# Altium footprint library con-other.PcbLib: 23 footprints (part 2 of 2)
Each footprint in its own frame and in the unit in brackets; x right, y up, seen from the top. Pads: shape width x height; smd on the part's side, far side on the other; paste and mask are expansions set on the pad; w line width, h text height; cw(c..) or ccw(c..) is an arc to the next point about the centre after c.
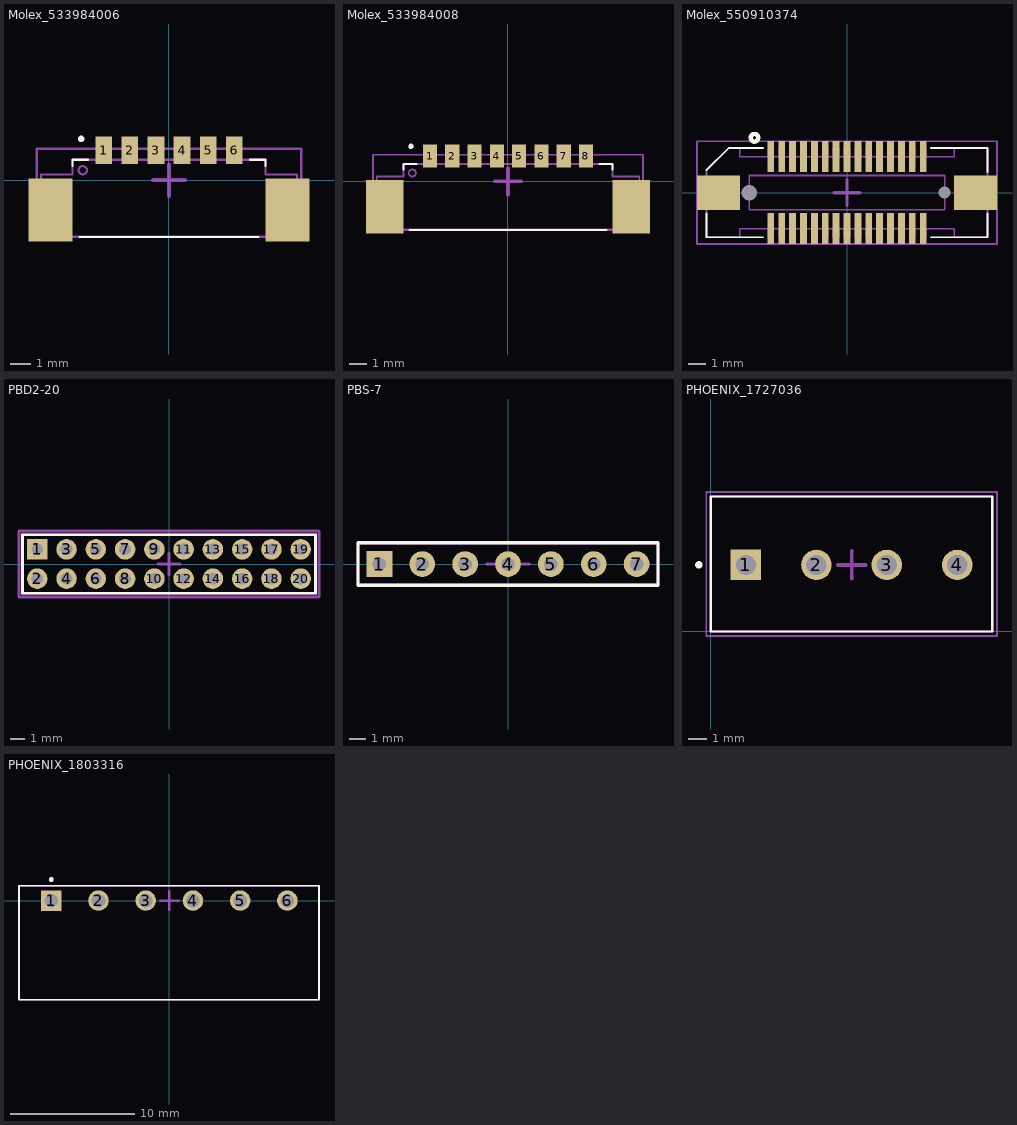
[diagram p1: the footprints below, top view; thin cyan lines are the x and y axes]

## Molex_533984006 [mm] "1.25mm Pitch PicoBlade™ Header, Surface Mount, Vertical, 6 Circuits"
height 4.7
pads (8):
  rect 0.8x1.3 smd mask+0.1: 1(-3.125,1.425) 2(-1.875,1.425) 3(-0.625,1.425) 4(0.625,1.425) 5(1.875,1.425) 6(3.125,1.425)
  rect 2.1x3 smd mask+0.1: ""(-5.675,-1.425) ""(5.675,-1.425)
Top Overlay:
  circle w0.2: c-4.2,1.975 r0.05
  lines w0.1: -4.625,0.675 -4.625,0.975 -3.875,0.975 ; -4.275,-2.725 4.275,-2.725 ; 3.875,0.975 4.625,0.975 4.625,0.675
Top Assembly (Mech3):
  circle w0.1: c-4.125,0.475 r0.2
  lines w0.1: -6.125,-2.725 6.125,-2.725 6.125,0.275 4.625,0.275 4.625,0.975 -4.625,0.975 -4.625,0.275 -6.125,0.275 -6.125,-2.725
Top Courtyard:
  lines w0.1: -6.325,-2.7 6.325,-2.7 6.325,1.5 -6.325,1.5 -6.325,-2.7
  lines w0.2: -0.75,0 0.75,0 ; 0,-0.75 0,0.75
3D body "533980671.stp": height 4.72, standoff -0.02, extent -6.325,-2.7 6.325,1.5

## Molex_533984008 [mm] "1.25mm Pitch PicoBlade™ Header, Surface Mount, Vertical, 8 Circuits"
height 4.7
pads (10):
  rect 0.8x1.3 smd mask+0.1: 1(-4.375,1.425) 2(-3.125,1.425) 3(-1.875,1.425) 4(-0.625,1.425) 5(0.625,1.425) 6(1.875,1.425) 7(3.125,1.425) 8(4.375,1.425)
  rect 2.1x3 smd mask+0.1: ""(-6.925,-1.425) ""(6.925,-1.425)
Top Overlay:
  circle w0.2: c-5.45,1.975 r0.05
  lines w0.1: -5.875,0.675 -5.875,0.975 -5.125,0.975 ; -5.525,-2.725 5.525,-2.725 ; 5.125,0.975 5.875,0.975 5.875,0.675
Top Assembly (Mech3):
  circle w0.1: c-5.375,0.475 r0.2
  lines w0.1: -7.375,-2.725 -7.375,0.275 -5.875,0.275 -5.875,0.975 5.875,0.975 5.875,0.275 7.375,0.275 7.375,-2.725 -7.375,-2.725
Top Courtyard:
  lines w0.1: -7.575,-2.7 7.575,-2.7 7.575,1.5 -7.575,1.5 -7.575,-2.7
  lines w0.2: -0.75,0 0.75,0 ; 0,-0.75 0,0.75
3D body "533980871.stp": height 4.72, standoff -0.02, extent -7.575,-2.7 7.575,1.5

## Molex_550910374 [mm] "SlimStack Board-to-Board Connector, 0.635mm Pitch, 0.635 Series, Receptacle, 6.00 to 10.00mm Mated Height, 6.40mm Mated Width, 30 Circuits"
height 5.2
pads (34):
  rect 0.4x1.8 smd: 1(-4.445,2.1) 2(-4.445,-2.1) 3(-3.81,2.1) 4(-3.81,-2.1) 5(-3.175,2.1) 6(-3.175,-2.1) 7(-2.54,2.1) 8(-2.54,-2.1) 9(-1.905,2.1) 10(-1.905,-2.1) 11(-1.27,2.1) 12(-1.27,-2.1) 13(-0.635,2.1) 14(-0.635,-2.1) 15(0,2.1) 16(0,-2.1) 17(0.635,2.1) 18(0.635,-2.1) 19(1.27,2.1) 20(1.27,-2.1) 21(1.905,2.1) 22(1.905,-2.1) 23(2.54,2.1) 24(2.54,-2.1) 25(3.175,2.1) 26(3.175,-2.1) 27(3.81,2.1) 28(3.81,-2.1) 29(4.445,2.1) 30(4.445,-2.1)
  round 0 hole 0.9: 4(-5.7,0)
  round 0 hole 0.7: 4(5.7,0)
  rect 2.5x2 smd: ""(-7.5,0) ""(7.5,0)
Top Overlay:
  circle w0.254: c-5.4,3.2 r0.224
  lines w0.1: -8.2,-1.2 -8.2,-2.6 ; -8.2,1.3 -6.9,2.6 -4.9,2.6 ; -4.9,-2.6 -8.2,-2.6 ; 4.9,-2.6 8.2,-2.6 ; 4.9,2.6 8.2,2.6 8.2,1.2 ; 8.2,-1.2 8.2,-2.6 ; -8.2,-2.6 -8.2,-2.6 ; 8.2,-2.6 8.2,-2.6
Top Assembly (Mech3):
  region: 4.645,-2.1 4.245,-2.1 4.245,-2.6 4.645,-2.6
  region: 4.01,-2.1 3.61,-2.1 3.61,-2.6 4.01,-2.6
  region: 3.375,-2.1 2.975,-2.1 2.975,-2.6 3.375,-2.6
  region: 2.74,-2.1 2.34,-2.1 2.34,-2.6 2.74,-2.6
  region: 2.105,-2.1 1.705,-2.1 1.705,-2.6 2.105,-2.6
  region: 1.47,-2.1 1.07,-2.1 1.07,-2.6 1.47,-2.6
  region: 0.835,-2.1 0.435,-2.1 0.435,-2.6 0.835,-2.6
  region: 0.2,-2.1 -0.2,-2.1 -0.2,-2.6 0.2,-2.6
  region: -0.435,-2.1 -0.835,-2.1 -0.835,-2.6 -0.435,-2.6
  region: -1.07,-2.1 -1.47,-2.1 -1.47,-2.6 -1.07,-2.6
  region: -1.705,-2.1 -2.105,-2.1 -2.105,-2.6 -1.705,-2.6
  region: -2.34,-2.1 -2.74,-2.1 -2.74,-2.6 -2.34,-2.6
  region: -2.975,-2.1 -3.375,-2.1 -3.375,-2.6 -2.975,-2.6
  region: -3.61,-2.1 -4.01,-2.1 -4.01,-2.6 -3.61,-2.6
  region: -4.245,-2.1 -4.645,-2.1 -4.645,-2.6 -4.245,-2.6
  rectangle: 4.245,2.1 4.645,2.6
  rectangle: 3.61,2.1 4.01,2.6
  rectangle: 2.975,2.1 3.375,2.6
  rectangle: 2.34,2.1 2.74,2.6
  rectangle: 1.705,2.1 2.105,2.6
  rectangle: 1.07,2.1 1.47,2.6
  rectangle: 0.435,2.1 0.835,2.6
  rectangle: -0.2,2.1 0.2,2.6
  rectangle: -0.835,2.1 -0.435,2.6
  rectangle: -1.47,2.1 -1.07,2.6
  rectangle: -2.105,2.1 -1.705,2.6
  rectangle: -2.74,2.1 -2.34,2.6
  rectangle: -3.375,2.1 -2.975,2.6
  rectangle: -4.01,2.1 -3.61,2.6
  rectangle: -4.645,2.1 -4.245,2.6
  lines w0.1: -6.25,-2.1 -6.25,-2.6 -8.2,-2.6 -8.2,1.3 -6.9,2.6 -6.25,2.6 -6.25,2.1 6.25,2.1 6.25,2.6 8.2,2.6 8.2,-2.6 6.25,-2.6 6.25,-2.1 -6.25,-2.1 ; -6.25,-2.1 -6.25,-2.1 ; 5.7,1 -5.7,1 -5.7,-1 5.7,-1 5.7,1 ; 5.7,1 5.7,1
Top Courtyard:
  lines w0.1: -8.75,-3 -8.75,3 8.75,3 8.75,-3 -8.75,-3
  lines w0.2: -0.75,0 0.75,0 ; 0,-0.75 0,0.75
3D body "Molex 550910374.stp": height 5.2, standoff -0.6, extent -8.2,-2.6 8.2,2.6

## PBD2-20 [mm] "DS1026-06"
height 4.3
pads (20):
  rect 1.4x1.4 hole 0.8: 1(-9,1)
  round 1.4 hole 0.8: 2(-9,-1) 3(-7,1) 4(-7,-1) 5(-5,1) 6(-5,-1) 7(-3,1) 8(-3,-1) 9(-1,1) 10(-1,-1) 11(1,1) 12(1,-1) 13(3,1) 14(3,-1) 15(5,1) 16(5,-1) 17(7,1) 18(7,-1) 19(9,1) 20(9,-1)
Top Overlay:
  lines w0.2: -10,-2 -10,2 10,2 10,-2 -10,-2
Top Assembly (Mech3):
  lines w0.2: -10,-2 -10,2 10,2 10,-2 -10,-2
Top Courtyard:
  lines w0.2: -0.75,0 0.75,0 ; 0,-0.75 0,0.75 ; -10.25,-2.25 10.25,-2.25 10.25,2.25 -10.25,2.25 -10.25,-2.25
3D body "User Library-PBD2-20.STEP": height 4.3, standoff -2.7, extent -10,-2 10,2

## PBS-7 [mil] "DS1023-1x7"
height 334.65
pads (7):
  rect 60x60 hole 31.5: 1(-300,0)
  round 60 hole 31.5: 2(-200,0) 3(-100,0) 4(0,0) 5(100,0) 6(200,0) 7(300,0)
Top Overlay:
  lines w7.87: -350,-50 350,-50 350,50 -350,50 -350,-50
Top Assembly (Mech3):
  lines w7.87: -349.99,-49.99 350,-50 350,50 -349.99,50.01 -349.99,-49.99
Top Courtyard:
  lines w7.87: -50,0 50,0 ; 0,-25 0,25 ; -350,-50 350,-50 350,50 -350,50 -350,-50
3D body "PBS-7.stp": height 330.71, standoff -125.98, extent -349.99,-49.99 350.01,50.01

## PHOENIX_1727036 [mm]
pads (4):
  rect 1.65x1.65 / inner round 1.65 / far side rect 1.65x1.65 hole 1.1: 1(1.9,3.6)
  round 1.65 hole 1.1: 2(5.71,3.6) 3(9.52,3.6) 4(13.33,3.6)
Top Overlay:
  circle w0.2: c-0.65,3.6 r0.1
  lines w0.127: 0,0 0,7.3 15.23,7.3 15.23,0 0,0
Top Assembly (Mech3):
  lines w0.1: -0.25,-0.25 -0.25,7.55 15.48,7.55 15.48,-0.25 -0.25,-0.25
Top Courtyard:
  lines w0.1: 0,0 0,7.3 15.23,7.3 15.23,0 0,0
  lines w0.2: 6.865,3.6 8.365,3.6 ; 7.615,2.85 7.615,4.35
3D body "1727036.stp": height 8.5, standoff -3.5, extent 0,0 15.23,7.3

## PHOENIX_1803316 [mm] "MC 1,5/ 6-G-3,81"
pads (6):
  rect 1.65x1.65 / inner round 1.65 / far side rect 1.65x1.65 hole 1.1: 1(-9.525,0)
  round 1.65 hole 1.1: 2(-5.715,0) 3(-1.905,0) 4(1.905,0) 5(5.715,0) 6(9.525,0)
Top Overlay:
  circle w0.2: c-9.525,1.7 r0.1
  lines w0.127: -12.125,-8 12.075,-8 12.075,1.2 -12.125,1.2 -12.125,-8
Top Assembly (Mech3):
  lines w0.1: -12.125,-8 -12.125,1.2 12.075,1.2 12.075,-8 -12.125,-8
  text ".Designator" at -12.496,-4.317 h2.5
Top Courtyard:
  lines w0.1: -12.125,-8 12.075,-8 12.075,1.2 -12.125,1.2 -12.125,-8
  lines w0.2: -0.75,0 0.75,0 ; 0,-0.75 0,0.75
3D body "pxc_1803316_05_MC-1-5-6-G-3-81_3D.stp": height 7.25, standoff -3.4, extent -12.14,-8 12.11,1.2